# Altium footprint library SOT-23.PcbLib: 1 footprints
Each footprint in its own frame and in the unit in brackets; x right, y up, seen from the top. Pads: shape width x height; smd on the part's side, far side on the other; paste and mask are expansions set on the pad; w line width, h text height; cw(c..) or ccw(c..) is an arc to the next point about the centre after c.
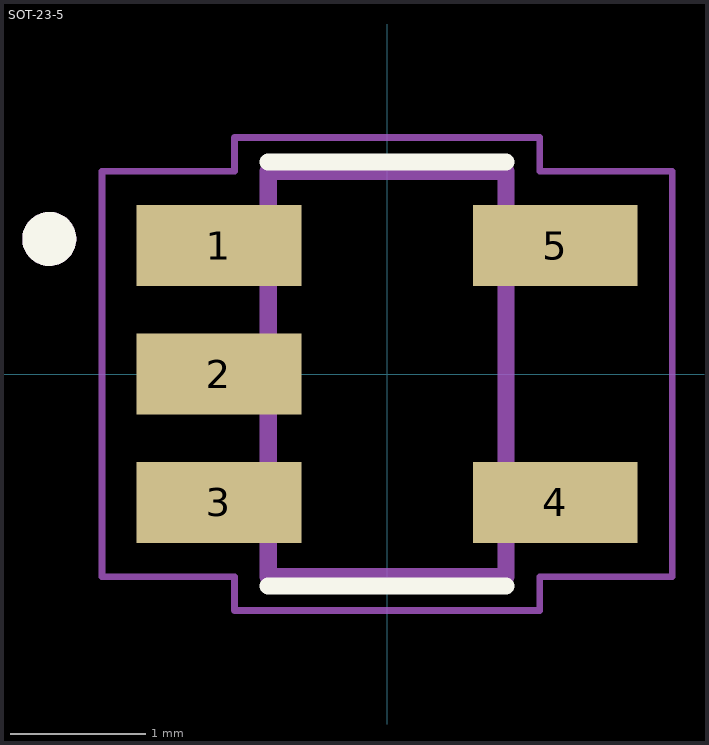
[diagram p0: the footprint, top view; thin cyan lines are the x and y axes]

## SOT-23-5 [mm] "5-pin SOT package"
height 1.5
pads (5):
  rect 1.22x0.6 smd: 1(-1.245,0.95) 2(-1.245,0) 3(-1.245,-0.95) 4(1.245,-0.95) 5(1.245,0.95)
Top Overlay:
  circle w0.2: c-2.5,1 r0.1
  lines w0.127: -0.88,-1.57 0.88,-1.57 ; -0.88,1.57 0.88,1.57
Mechanical 13:
  circle w0.2: c-2.5,1 r0.1
  circle w0.2: c-2.5,1 r0.1
  lines w0.127: -0.88,-1.5 -0.88,1.5 ; -0.88,-1.5 0.88,-1.5 ; -0.88,-1.5 -0.88,1.5 ; -0.88,-1.5 0.88,-1.5 ; -0.88,1.5 0.88,1.5 ; -0.88,1.5 0.88,1.5 ; 0.88,-1.5 0.88,1.5 ; 0.88,-1.5 0.88,1.5
Mechanical 15:
  lines w0.05: -2.11,-1.5 -1.13,-1.5 -1.13,-1.75 1.13,-1.75 1.13,-1.5 2.11,-1.5 2.11,1.5 1.13,1.5 1.13,1.75 -1.13,1.75 -1.13,1.5 -2.11,1.5 -2.11,-1.5
3D body "SOT23_5.stp": height 0.92, standoff 0.01, extent -1.554,-1.5 1.651,1.5